# Altium integrated library WE-LHMI (rev22a).IntLib: 164 symbols (part 3 of 4)
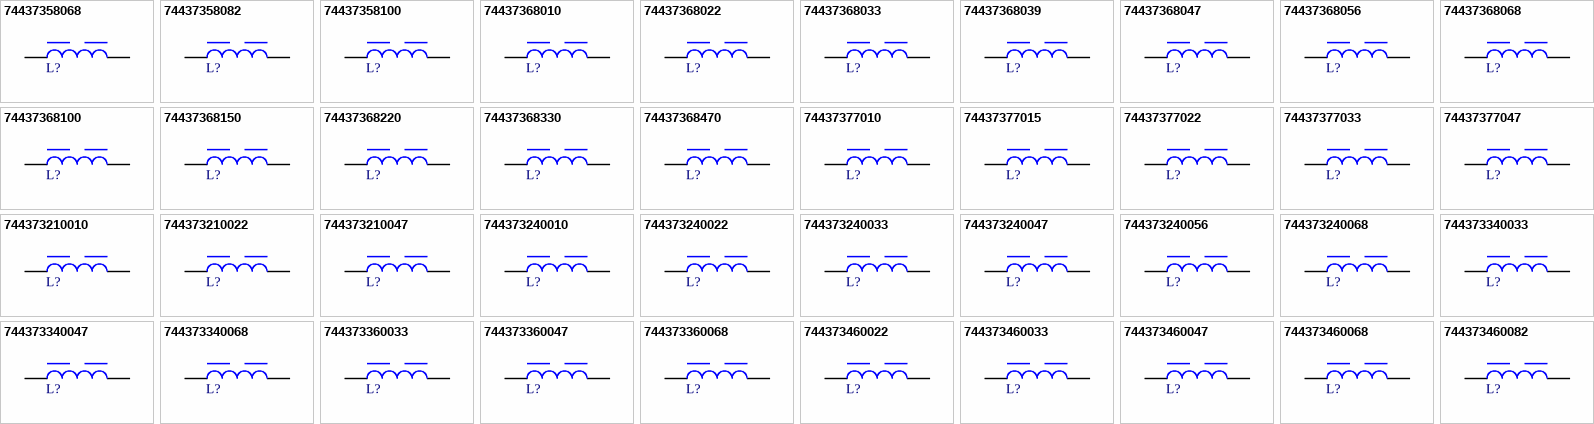
[diagram p6: symbols 74437358068 to 744373460082]

## 744373340033
designator L?, comment 0.33µH, 12.4A  (value not drawn)
WE-LHMI SMT Power Inductor, size 5020, 0.33µH, 12.4A, 7.3mΩ; Manufacturer Part Number: 744373340033; Manufacturer: Wurth Elektronik; Case/Size Code: 5020; DC Resistance: 6.3mΩ; Saturation Current @10%: 14.7A; Saturation Current @30%: 29.3A; Self Resonant Frequency: 100MHz; ComponentLink1Description: Website Link; ComponentLink1URL: https://www.we-online.com/redexpert/article/744373340033?ad; ComponentLink2Description: Datasheet Link; ComponentLink2URL: https://www.we-online.com/redexpert/spec/744373340033?ad; Category: Shielded Power Inductors; Match Code: WE-LHMI; Mount: Surface Mount; Operating Temperature Max: 125°C; Operating Temperature Min: -40°C; Packaging: Tape and Reel; Length: 5.2mm; Width: 5.2mm; Height: 1.8mm; DC Resistance Max: 7.3mΩ; Inductance: 0.33µH; Performance Rated Current: 12.4A
footprint WE-LHMI_5020
pins: 1, 2

## 744373340047
designator L?, comment 0.47µH, 11.5A  (value not drawn)
WE-LHMI SMT Power Inductor, size 5020, 0.47µH, 11.5A, 8.6mΩ; Manufacturer Part Number: 744373340047; Manufacturer: Wurth Elektronik; Case/Size Code: 5020; DC Resistance: 7.3mΩ; Saturation Current @10%: 9.6A; Saturation Current @30%: 19.8A; Self Resonant Frequency: 95MHz; ComponentLink1Description: Website Link; ComponentLink1URL: https://www.we-online.com/redexpert/article/744373340047?ad; ComponentLink2Description: Datasheet Link; ComponentLink2URL: https://www.we-online.com/redexpert/spec/744373340047?ad; Category: Shielded Power Inductors; Match Code: WE-LHMI; Mount: Surface Mount; Operating Temperature Max: 125°C; Operating Temperature Min: -40°C; Packaging: Tape and Reel; Length: 5.2mm; Width: 5.2mm; Height: 1.8mm; DC Resistance Max: 8.6mΩ; Inductance: 0.47µH; Performance Rated Current: 11.5A
footprint WE-LHMI_5020
pins: 1, 2

## 744373340068
designator L?, comment 0.68µH, 9.4A  (value not drawn)
WE-LHMI SMT Power Inductor, size 5020, 0.68µH, 9.4A, 12.4mΩ; Manufacturer Part Number: 744373340068; Manufacturer: Wurth Elektronik; Case/Size Code: 5020; DC Resistance: 11mΩ; Saturation Current @10%: 9.8A; Saturation Current @30%: 17.8A; Self Resonant Frequency: 90MHz; ComponentLink1Description: Website Link; ComponentLink1URL: https://www.we-online.com/redexpert/article/744373340068?ad; ComponentLink2Description: Datasheet Link; ComponentLink2URL: https://www.we-online.com/redexpert/spec/744373340068?ad; Category: Shielded Power Inductors; Match Code: WE-LHMI; Mount: Surface Mount; Operating Temperature Max: 125°C; Operating Temperature Min: -40°C; Packaging: Tape and Reel; Length: 5.2mm; Width: 5.2mm; Height: 1.8mm; DC Resistance Max: 12.4mΩ; Inductance: 0.68µH; Performance Rated Current: 9.4A
footprint WE-LHMI_5020
pins: 1, 2

## 744373360033
designator L?, comment 0.33µH, 15.1A  (value not drawn)
WE-LHMI SMT Power Inductor, size 5030, 0.33µH, 15.1A, 5mΩ; Manufacturer Part Number: 744373360033; Manufacturer: Wurth Elektronik; Case/Size Code: 5030; DC Resistance: 4.3mΩ; Saturation Current @10%: 15A; Saturation Current @30%: 29.3A; Self Resonant Frequency: 120MHz; ComponentLink1Description: Website Link; ComponentLink1URL: https://www.we-online.com/redexpert/article/744373360033?ad; ComponentLink2Description: Datasheet Link; ComponentLink2URL: https://www.we-online.com/redexpert/spec/744373360033?ad; Category: Shielded Power Inductors; Match Code: WE-LHMI; Mount: Surface Mount; Operating Temperature Max: 125°C; Operating Temperature Min: -40°C; Packaging: Tape and Reel; Length: 5.2mm; Width: 5.2mm; Height: 2.8mm; DC Resistance Max: 5mΩ; Inductance: 0.33µH; Performance Rated Current: 15.1A
footprint WE-LHMI_5030
pins: 1, 2

## 744373360047
designator L?, comment 0.47µH, 12.3A  (value not drawn)
WE-LHMI SMT Power Inductor, size 5030, 0.47µH, 12.3A, 7.4mΩ; Manufacturer Part Number: 744373360047; Manufacturer: Wurth Elektronik; Case/Size Code: 5030; DC Resistance: 6.4mΩ; Saturation Current @10%: 10.8A; Saturation Current @30%: 21.5A; Self Resonant Frequency: 100MHz; ComponentLink1Description: Website Link; ComponentLink1URL: https://www.we-online.com/redexpert/article/744373360047?ad; ComponentLink2Description: Datasheet Link; ComponentLink2URL: https://www.we-online.com/redexpert/spec/744373360047?ad; Category: Shielded Power Inductors; Match Code: WE-LHMI; Mount: Surface Mount; Operating Temperature Max: 125°C; Operating Temperature Min: -40°C; Packaging: Tape and Reel; Length: 5.2mm; Width: 5.2mm; Height: 2.8mm; DC Resistance Max: 7.4mΩ; Inductance: 0.47µH; Performance Rated Current: 12.3A
footprint WE-LHMI_5030
pins: 1, 2

## 744373360068
designator L?, comment 0.68µH, 9.8A  (value not drawn)
WE-LHMI SMT Power Inductor, size 5030, 0.68µH, 9.8A, 12mΩ; Manufacturer Part Number: 744373360068; Manufacturer: Wurth Elektronik; Case/Size Code: 5030; DC Resistance: 10mΩ; Saturation Current @10%: 10.2A; Saturation Current @30%: 19.3A; Self Resonant Frequency: 90MHz; ComponentLink1Description: Website Link; ComponentLink1URL: https://www.we-online.com/redexpert/article/744373360068?ad; ComponentLink2Description: Datasheet Link; ComponentLink2URL: https://www.we-online.com/redexpert/spec/744373360068?ad; Category: Shielded Power Inductors; Match Code: WE-LHMI; Mount: Surface Mount; Operating Temperature Max: 125°C; Operating Temperature Min: -40°C; Packaging: Tape and Reel; Length: 5.2mm; Width: 5.2mm; Height: 2.8mm; DC Resistance Max: 12mΩ; Inductance: 0.68µH; Performance Rated Current: 9.8A
footprint WE-LHMI_5030
pins: 1, 2

## 744373460022
designator L?, comment 0.22µH, 23A  (value not drawn)
WE-LHMI SMT Power Inductor, size 7030, 0.22µH, 23A, 2.8mΩ; Manufacturer Part Number: 744373460022; Manufacturer: Wurth Elektronik; Case/Size Code: 7030; DC Resistance: 2.1mΩ; Saturation Current @10%: 29.9A; Saturation Current @30%: 54.3A; Self Resonant Frequency: 149MHz; ComponentLink1Description: Website Link; ComponentLink1URL: https://www.we-online.com/redexpert/article/744373460022?ad; ComponentLink2Description: Datasheet Link; ComponentLink2URL: https://www.we-online.com/redexpert/spec/744373460022?ad; Category: Shielded Power Inductors; Match Code: WE-LHMI; Mount: Surface Mount; Operating Temperature Max: 125°C; Operating Temperature Min: -40°C; Packaging: Tape and Reel; Length: 6.6mm; Width: 6.6mm; Height: 2.8mm; DC Resistance Max: 2.8mΩ; Inductance: 0.22µH; Performance Rated Current: 23A
footprint WE-LHMI_7030
pins: 1, 2

## 744373460033
designator L?, comment 0.33µH, 17.8A  (value not drawn)
WE-LHMI SMT Power Inductor, size 7030, 0.33µH, 17.8A, 3.9mΩ; Manufacturer Part Number: 744373460033; Manufacturer: Wurth Elektronik; Case/Size Code: 7030; DC Resistance: 3.5mΩ; Saturation Current @10%: 27.1A; Saturation Current @30%: 47A; Self Resonant Frequency: 124MHz; ComponentLink1Description: Website Link; ComponentLink1URL: https://www.we-online.com/redexpert/article/744373460033?ad; ComponentLink2Description: Datasheet Link; ComponentLink2URL: https://www.we-online.com/redexpert/spec/744373460033?ad; Category: Shielded Power Inductors; Match Code: WE-LHMI; Mount: Surface Mount; Operating Temperature Max: 125°C; Operating Temperature Min: -40°C; Packaging: Tape and Reel; Length: 6.6mm; Width: 6.6mm; Height: 2.8mm; DC Resistance Max: 3.9mΩ; Inductance: 0.33µH; Performance Rated Current: 17.8A
footprint WE-LHMI_7030
pins: 1, 2

## 744373460047
designator L?, comment 0.47µH, 16.6A  (value not drawn)
WE-LHMI SMT Power Inductor, size 7030, 0.47µH, 16.6A, 4.2mΩ; Manufacturer Part Number: 744373460047; Manufacturer: Wurth Elektronik; Case/Size Code: 7030; DC Resistance: 4mΩ; Saturation Current @10%: 21.4A; Saturation Current @30%: 37.8A; Self Resonant Frequency: 91MHz; ComponentLink1Description: Website Link; ComponentLink1URL: https://www.we-online.com/redexpert/article/744373460047?ad; ComponentLink2Description: Datasheet Link; ComponentLink2URL: https://www.we-online.com/redexpert/spec/744373460047?ad; Category: Shielded Power Inductors; Match Code: WE-LHMI; Mount: Surface Mount; Operating Temperature Max: 125°C; Operating Temperature Min: -40°C; Packaging: Tape and Reel; Length: 6.6mm; Width: 6.6mm; Height: 2.8mm; DC Resistance Max: 4.2mΩ; Inductance: 0.47µH; Performance Rated Current: 16.6A
footprint WE-LHMI_7030
pins: 1, 2

## 744373460068
designator L?, comment 0.68µH, 15.1A  (value not drawn)
WE-LHMI SMT Power Inductor, size 7030, 0.68µH, 15.1A, 5.5mΩ; Manufacturer Part Number: 744373460068; Manufacturer: Wurth Elektronik; Case/Size Code: 7030; DC Resistance: 4.8mΩ; Saturation Current @10%: 15.9A; Saturation Current @30%: 31.6A; Self Resonant Frequency: 72MHz; ComponentLink1Description: Website Link; ComponentLink1URL: https://www.we-online.com/redexpert/article/744373460068?ad; ComponentLink2Description: Datasheet Link; ComponentLink2URL: https://www.we-online.com/redexpert/spec/744373460068?ad; Category: Shielded Power Inductors; Match Code: WE-LHMI; Mount: Surface Mount; Operating Temperature Max: 125°C; Operating Temperature Min: -40°C; Packaging: Tape and Reel; Length: 6.6mm; Width: 6.6mm; Height: 2.8mm; DC Resistance Max: 5.5mΩ; Inductance: 0.68µH; Performance Rated Current: 15.1A
footprint WE-LHMI_7030
pins: 1, 2

## 744373460082
designator L?, comment 0.82µH, 12.7A  (value not drawn)
WE-LHMI SMT Power Inductor, size 7030, 0.82µH, 12.7A, 8mΩ; Manufacturer Part Number: 744373460082; Manufacturer: Wurth Elektronik; Case/Size Code: 7030; DC Resistance: 6.7mΩ; Saturation Current @10%: 15A; Saturation Current @30%: 31.9A; Self Resonant Frequency: 60MHz; ComponentLink1Description: Website Link; ComponentLink1URL: https://www.we-online.com/redexpert/article/744373460082?ad; ComponentLink2Description: Datasheet Link; ComponentLink2URL: https://www.we-online.com/redexpert/spec/744373460082?ad; Category: Shielded Power Inductors; Match Code: WE-LHMI; Mount: Surface Mount; Operating Temperature Max: 125°C; Operating Temperature Min: -40°C; Packaging: Tape and Reel; Length: 6.6mm; Width: 6.6mm; Height: 2.8mm; DC Resistance Max: 8mΩ; Inductance: 0.82µH; Performance Rated Current: 12.7A
footprint WE-LHMI_7030
pins: 1, 2

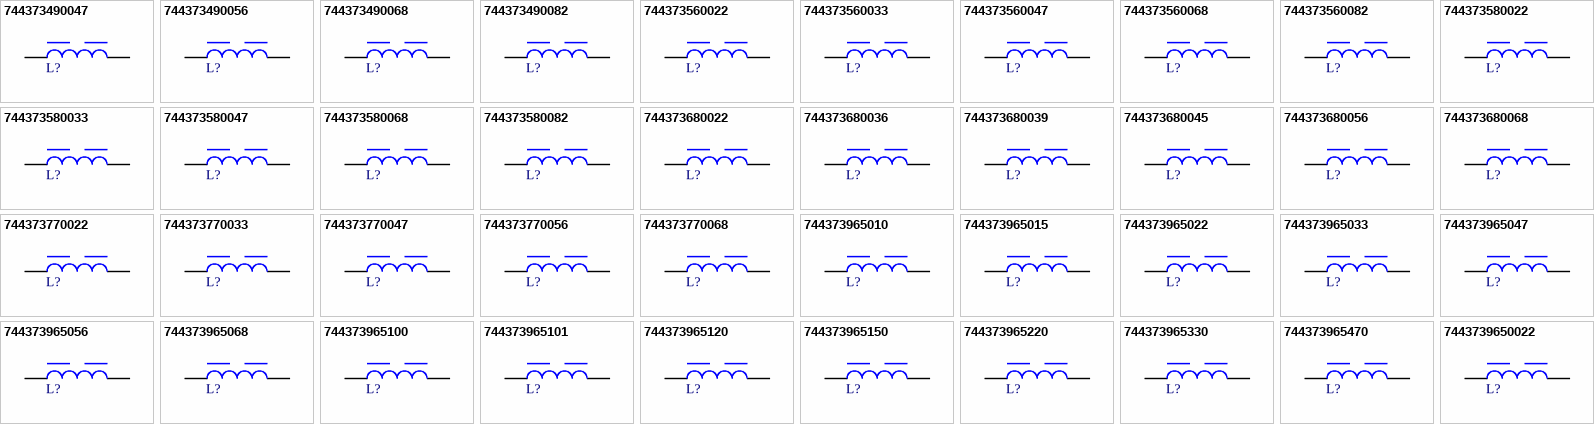
[diagram p3: symbols 744373490047 to 7443739650022]

## 744373490047
designator L?, comment 0.47µH, 17.8A  (value not drawn)
WE-LHMI SMT Power Inductor, size 7050, 0.47µH, 17.8A, 3.9mΩ; Manufacturer Part Number: 744373490047; Manufacturer: Wurth Elektronik; Case/Size Code: 7050; DC Resistance: 3.5mΩ; Saturation Current @10%: 20A; Saturation Current @30%: 41.6A; Self Resonant Frequency: 96MHz; ComponentLink1Description: Website Link; ComponentLink1URL: https://www.we-online.com/redexpert/article/744373490047?ad; ComponentLink2Description: Datasheet Link; ComponentLink2URL: https://www.we-online.com/redexpert/spec/744373490047?ad; Category: Shielded Power Inductors; Match Code: WE-LHMI; Mount: Surface Mount; Operating Temperature Max: 125°C; Operating Temperature Min: -40°C; Packaging: Tape and Reel; Length: 6.6mm; Width: 6.6mm; Height: 4.8mm; DC Resistance Max: 3.9mΩ; Inductance: 0.47µH; Performance Rated Current: 17.8A
footprint WE-LHMI_7050
pins: 1, 2

## 744373490056
designator L?, comment 0.56µH, 17.6A  (value not drawn)
WE-LHMI SMT Power Inductor, size 7050, 0.56µH, 17.6A, 4.2mΩ; Manufacturer Part Number: 744373490056; Manufacturer: Wurth Elektronik; Case/Size Code: 7050; DC Resistance: 3.6mΩ; Saturation Current @10%: 19.9A; Saturation Current @30%: 36.4A; Self Resonant Frequency: 85MHz; ComponentLink1Description: Website Link; ComponentLink1URL: https://www.we-online.com/redexpert/article/744373490056?ad; ComponentLink2Description: Datasheet Link; ComponentLink2URL: https://www.we-online.com/redexpert/spec/744373490056?ad; Category: Shielded Power Inductors; Match Code: WE-LHMI; Mount: Surface Mount; Operating Temperature Max: 125°C; Operating Temperature Min: -40°C; Packaging: Tape and Reel; Length: 6.6mm; Width: 6.6mm; Height: 4.8mm; DC Resistance Max: 4.2mΩ; Inductance: 0.56µH; Performance Rated Current: 17.6A
footprint WE-LHMI_7050
pins: 1, 2

## 744373490068
designator L?, comment 0.68µH, 16.7A  (value not drawn)
WE-LHMI SMT Power Inductor, size 7050, 0.68µH, 16.7A, 4.5mΩ; Manufacturer Part Number: 744373490068; Manufacturer: Wurth Elektronik; Case/Size Code: 7050; DC Resistance: 4mΩ; Saturation Current @10%: 18.8A; Saturation Current @30%: 33.8A; Self Resonant Frequency: 73MHz; ComponentLink1Description: Website Link; ComponentLink1URL: https://www.we-online.com/redexpert/article/744373490068?ad; ComponentLink2Description: Datasheet Link; ComponentLink2URL: https://www.we-online.com/redexpert/spec/744373490068?ad; Category: Shielded Power Inductors; Match Code: WE-LHMI; Mount: Surface Mount; Operating Temperature Max: 125°C; Operating Temperature Min: -40°C; Packaging: Tape and Reel; Length: 6.6mm; Width: 6.6mm; Height: 4.8mm; DC Resistance Max: 4.5mΩ; Inductance: 0.68µH; Performance Rated Current: 16.7A
footprint WE-LHMI_7050
pins: 1, 2

## 744373490082
designator L?, comment 0.82µH, 15.5A  (value not drawn)
WE-LHMI SMT Power Inductor, size 7050, 0.82µH, 15.5A, 4.9mΩ; Manufacturer Part Number: 744373490082; Manufacturer: Wurth Elektronik; Case/Size Code: 7050; DC Resistance: 4.6mΩ; Saturation Current @10%: 17.4A; Saturation Current @30%: 31.6A; Self Resonant Frequency: 70MHz; ComponentLink1Description: Website Link; ComponentLink1URL: https://www.we-online.com/redexpert/article/744373490082?ad; ComponentLink2Description: Datasheet Link; ComponentLink2URL: https://www.we-online.com/redexpert/spec/744373490082?ad; Category: Shielded Power Inductors; Match Code: WE-LHMI; Mount: Surface Mount; Operating Temperature Max: 125°C; Operating Temperature Min: -40°C; Packaging: Tape and Reel; Length: 6.6mm; Width: 6.6mm; Height: 4.8mm; DC Resistance Max: 4.9mΩ; Inductance: 0.82µH; Performance Rated Current: 15.5A
footprint WE-LHMI_7050
pins: 1, 2

## 744373560022
designator L?, comment 0.22µH, 29.5A  (value not drawn)
WE-LHMI SMT Power Inductor, size 8030, 0.22µH, 29.5A, 1.61mΩ; Manufacturer Part Number: 744373560022; Manufacturer: Wurth Elektronik; Case/Size Code: 8030; DC Resistance: 1.47mΩ; Saturation Current @10%: 32.1A; Saturation Current @30%: 63.4A; Self Resonant Frequency: 110MHz; ComponentLink1Description: Website Link; ComponentLink1URL: https://www.we-online.com/redexpert/article/744373560022?ad; ComponentLink2Description: Datasheet Link; ComponentLink2URL: https://www.we-online.com/redexpert/spec/744373560022?ad; Category: Shielded Power Inductors; Match Code: WE-LHMI; Mount: Surface Mount; Operating Temperature Max: 125°C; Operating Temperature Min: -40°C; Packaging: Tape and Reel; Length: 9.2mm; Width: 8.5mm; Height: 3mm; DC Resistance Max: 1.61mΩ; Inductance: 0.22µH; Performance Rated Current: 29.5A
footprint WE-LHMI_8030
pins: 1, 2

## 744373560033
designator L?, comment 0.33µH, 24.8A  (value not drawn)
WE-LHMI SMT Power Inductor, size 8030, 0.33µH, 24.8A, 2.57mΩ; Manufacturer Part Number: 744373560033; Manufacturer: Wurth Elektronik; Case/Size Code: 8030; DC Resistance: 2.06mΩ; Saturation Current @10%: 26.2A; Saturation Current @30%: 51.9A; Self Resonant Frequency: 95MHz; ComponentLink1Description: Website Link; ComponentLink1URL: https://www.we-online.com/redexpert/article/744373560033?ad; ComponentLink2Description: Datasheet Link; ComponentLink2URL: https://www.we-online.com/redexpert/spec/744373560033?ad; Category: Shielded Power Inductors; Match Code: WE-LHMI; Mount: Surface Mount; Operating Temperature Max: 125°C; Operating Temperature Min: -40°C; Packaging: Tape and Reel; Length: 9.2mm; Width: 8.5mm; Height: 3mm; DC Resistance Max: 2.57mΩ; Inductance: 0.33µH; Performance Rated Current: 24.8A
footprint WE-LHMI_8030
pins: 1, 2

## 744373560047
designator L?, comment 0.47µH, 23.2A  (value not drawn)
WE-LHMI SMT Power Inductor, size 8030, 0.47µH, 23.2A, 3.33mΩ; Manufacturer Part Number: 744373560047; Manufacturer: Wurth Elektronik; Case/Size Code: 8030; DC Resistance: 2.35mΩ; Saturation Current @10%: 22A; Saturation Current @30%: 44.7A; Self Resonant Frequency: 72MHz; ComponentLink1Description: Website Link; ComponentLink1URL: https://www.we-online.com/redexpert/article/744373560047?ad; ComponentLink2Description: Datasheet Link; ComponentLink2URL: https://www.we-online.com/redexpert/spec/744373560047?ad; Category: Shielded Power Inductors; Match Code: WE-LHMI; Mount: Surface Mount; Operating Temperature Max: 125°C; Operating Temperature Min: -40°C; Packaging: Tape and Reel; Length: 9.2mm; Width: 8.5mm; Height: 3mm; DC Resistance Max: 3.33mΩ; Inductance: 0.47µH; Performance Rated Current: 23.2A
footprint WE-LHMI_8030
pins: 1, 2

## 744373560068
designator L?, comment 0.68µH, 18.5A  (value not drawn)
WE-LHMI SMT Power Inductor, size 8030, 0.68µH, 18.5A, 3.99mΩ; Manufacturer Part Number: 744373560068; Manufacturer: Wurth Elektronik; Case/Size Code: 8030; DC Resistance: 3.65mΩ; Saturation Current @10%: 21A; Saturation Current @30%: 43A; Self Resonant Frequency: 53MHz; ComponentLink1Description: Website Link; ComponentLink1URL: https://www.we-online.com/redexpert/article/744373560068?ad; ComponentLink2Description: Datasheet Link; ComponentLink2URL: https://www.we-online.com/redexpert/spec/744373560068?ad; Category: Shielded Power Inductors; Match Code: WE-LHMI; Mount: Surface Mount; Operating Temperature Max: 125°C; Operating Temperature Min: -40°C; Packaging: Tape and Reel; Length: 9.2mm; Width: 8.5mm; Height: 3mm; DC Resistance Max: 3.99mΩ; Inductance: 0.68µH; Performance Rated Current: 18.5A
footprint WE-LHMI_8030
pins: 1, 2

## 744373560082
designator L?, comment 0.82µH, 17.3A  (value not drawn)
WE-LHMI SMT Power Inductor, size 8030, 0.82µH, 17.3A, 4.87mΩ; Manufacturer Part Number: 744373560082; Manufacturer: Wurth Elektronik; Case/Size Code: 8030; DC Resistance: 4.2mΩ; Saturation Current @10%: 19.3A; Saturation Current @30%: 40.9A; Self Resonant Frequency: 51MHz; ComponentLink1Description: Website Link; ComponentLink1URL: https://www.we-online.com/redexpert/article/744373560082?ad; ComponentLink2Description: Datasheet Link; ComponentLink2URL: https://www.we-online.com/redexpert/spec/744373560082?ad; Category: Shielded Power Inductors; Match Code: WE-LHMI; Mount: Surface Mount; Operating Temperature Max: 125°C; Operating Temperature Min: -40°C; Packaging: Tape and Reel; Length: 9.2mm; Width: 8.5mm; Height: 3mm; DC Resistance Max: 4.87mΩ; Inductance: 0.82µH; Performance Rated Current: 17.3A
footprint WE-LHMI_8030
pins: 1, 2

## 744373580022
designator L?, comment 0.22µH, 38.5A  (value not drawn)
WE-LHMI SMT Power Inductor, size 8040, 0.22µH, 38.5A, 1.35mΩ; Manufacturer Part Number: 744373580022; Manufacturer: Wurth Elektronik; Case/Size Code: 8040; DC Resistance: 0.87mΩ; Saturation Current @10%: 38.3A; Saturation Current @30%: 80.4A; Self Resonant Frequency: 145MHz; ComponentLink1Description: Website Link; ComponentLink1URL: https://www.we-online.com/redexpert/article/744373580022?ad; ComponentLink2Description: Datasheet Link; ComponentLink2URL: https://www.we-online.com/redexpert/spec/744373580022?ad; Category: Shielded Power Inductors; Match Code: WE-LHMI; Mount: Surface Mount; Operating Temperature Max: 125°C; Operating Temperature Min: -40°C; Packaging: Tape and Reel; Length: 9.2mm; Width: 8.5mm; Height: 4mm; DC Resistance Max: 1.35mΩ; Inductance: 0.22µH; Performance Rated Current: 38.5A
footprint WE-LHMI_8040
pins: 1, 2

## 744373580033
designator L?, comment 0.33µH, 29.7A  (value not drawn)
WE-LHMI SMT Power Inductor, size 8040, 0.33µH, 29.7A, 2.15mΩ; Manufacturer Part Number: 744373580033; Manufacturer: Wurth Elektronik; Case/Size Code: 8040; DC Resistance: 1.45mΩ; Saturation Current @10%: 31.4A; Saturation Current @30%: 67.2A; Self Resonant Frequency: 96MHz; ComponentLink1Description: Website Link; ComponentLink1URL: https://www.we-online.com/redexpert/article/744373580033?ad; ComponentLink2Description: Datasheet Link; ComponentLink2URL: https://www.we-online.com/redexpert/spec/744373580033?ad; Category: Shielded Power Inductors; Match Code: WE-LHMI; Mount: Surface Mount; Operating Temperature Max: 125°C; Operating Temperature Min: -40°C; Packaging: Tape and Reel; Length: 9.2mm; Width: 8.5mm; Height: 4mm; DC Resistance Max: 2.15mΩ; Inductance: 0.33µH; Performance Rated Current: 29.7A
footprint WE-LHMI_8040
pins: 1, 2

## 744373580047
designator L?, comment 0.47µH, 27.6A  (value not drawn)
WE-LHMI SMT Power Inductor, size 8040, 0.47µH, 27.6A, 2.38mΩ; Manufacturer Part Number: 744373580047; Manufacturer: Wurth Elektronik; Case/Size Code: 8040; DC Resistance: 1.68mΩ; Saturation Current @10%: 27.1A; Saturation Current @30%: 56.8A; Self Resonant Frequency: 82MHz; ComponentLink1Description: Website Link; ComponentLink1URL: https://www.we-online.com/redexpert/article/744373580047?ad; ComponentLink2Description: Datasheet Link; ComponentLink2URL: https://www.we-online.com/redexpert/spec/744373580047?ad; Category: Shielded Power Inductors; Match Code: WE-LHMI; Mount: Surface Mount; Operating Temperature Max: 125°C; Operating Temperature Min: -40°C; Packaging: Tape and Reel; Length: 9.2mm; Width: 8.5mm; Height: 4mm; DC Resistance Max: 2.38mΩ; Inductance: 0.47µH; Performance Rated Current: 27.6A
footprint WE-LHMI_8040
pins: 1, 2

## 744373580068
designator L?, comment 0.68µH, 21.5A  (value not drawn)
WE-LHMI SMT Power Inductor, size 8040, 0.68µH, 21.5A, 3.22mΩ; Manufacturer Part Number: 744373580068; Manufacturer: Wurth Elektronik; Case/Size Code: 8040; DC Resistance: 2.75mΩ; Saturation Current @10%: 17.5A; Saturation Current @30%: 37.8A; Self Resonant Frequency: 45MHz; ComponentLink1Description: Website Link; ComponentLink1URL: https://www.we-online.com/redexpert/article/744373580068?ad; ComponentLink2Description: Datasheet Link; ComponentLink2URL: https://www.we-online.com/redexpert/spec/744373580068?ad; Category: Shielded Power Inductors; Match Code: WE-LHMI; Mount: Surface Mount; Operating Temperature Max: 125°C; Operating Temperature Min: -40°C; Packaging: Tape and Reel; Length: 9.2mm; Width: 8.5mm; Height: 4mm; DC Resistance Max: 3.22mΩ; Inductance: 0.68µH; Performance Rated Current: 21.5A
footprint WE-LHMI_8040
pins: 1, 2

## 744373580082
designator L?, comment 0.82µH, 20.7A  (value not drawn)
WE-LHMI SMT Power Inductor, size 8040, 0.82µH, 20.7A, 3.88mΩ; Manufacturer Part Number: 744373580082; Manufacturer: Wurth Elektronik; Case/Size Code: 8040; DC Resistance: 2.95mΩ; Saturation Current @10%: 19.7A; Saturation Current @30%: 41.6A; Self Resonant Frequency: 51MHz; ComponentLink1Description: Website Link; ComponentLink1URL: https://www.we-online.com/redexpert/article/744373580082?ad; ComponentLink2Description: Datasheet Link; ComponentLink2URL: https://www.we-online.com/redexpert/spec/744373580082?ad; Category: Shielded Power Inductors; Match Code: WE-LHMI; Mount: Surface Mount; Operating Temperature Max: 125°C; Operating Temperature Min: -40°C; Packaging: Tape and Reel; Length: 9.2mm; Width: 8.5mm; Height: 4mm; DC Resistance Max: 3.88mΩ; Inductance: 0.82µH; Performance Rated Current: 20.7A
footprint WE-LHMI_8040
pins: 1, 2

## 744373680022
designator L?, comment 0.22µH, 41.4A  (value not drawn)
WE-LHMI SMT Power Inductor, size 1040, 0.22µH, 41.4A, 1mΩ; Manufacturer Part Number: 744373680022; Manufacturer: Wurth Elektronik; Case/Size Code: 1040; DC Resistance: 0.8mΩ; Saturation Current @10%: 46A; Saturation Current @30%: 94.2A; Self Resonant Frequency: 153MHz; ComponentLink1Description: Website Link; ComponentLink1URL: https://www.we-online.com/redexpert/article/744373680022?ad; ComponentLink2Description: Datasheet Link; ComponentLink2URL: https://www.we-online.com/redexpert/spec/744373680022?ad; Category: Shielded Power Inductors; Match Code: WE-LHMI; Mount: Surface Mount; Operating Temperature Max: 125°C; Operating Temperature Min: -40°C; Packaging: Tape and Reel; Length: 10mm; Width: 10mm; Height: 3.8mm; DC Resistance Max: 1mΩ; Inductance: 0.22µH; Performance Rated Current: 41.4A
footprint WE-LHMI_1040
pins: 1, 2

## 744373680036
designator L?, comment 0.36µH, 36.2A  (value not drawn)
WE-LHMI SMT Power Inductor, size 1040, 0.36µH, 36.2A, 1.2mΩ; Manufacturer Part Number: 744373680036; Manufacturer: Wurth Elektronik; Case/Size Code: 1040; DC Resistance: 1.05mΩ; Saturation Current @10%: 44.5A; Saturation Current @30%: 79.4A; Self Resonant Frequency: 104MHz; ComponentLink1Description: Website Link; ComponentLink1URL: https://www.we-online.com/redexpert/article/744373680036?ad; ComponentLink2Description: Datasheet Link; ComponentLink2URL: https://www.we-online.com/redexpert/spec/744373680036?ad; Category: Shielded Power Inductors; Match Code: WE-LHMI; Mount: Surface Mount; Operating Temperature Max: 125°C; Operating Temperature Min: -40°C; Packaging: Tape and Reel; Length: 10mm; Width: 10mm; Height: 3.8mm; DC Resistance Max: 1.2mΩ; Inductance: 0.36µH; Performance Rated Current: 36.2A
footprint WE-LHMI_1040
pins: 1, 2

## 744373680039
designator L?, comment 0.39µH, 35.3A  (value not drawn)
WE-LHMI SMT Power Inductor, size 1040, 0.39µH, 35.3A, 1.3mΩ; Manufacturer Part Number: 744373680039; Manufacturer: Wurth Elektronik; Case/Size Code: 1040; DC Resistance: 1.1mΩ; Saturation Current @10%: 43A; Saturation Current @30%: 77.5A; Self Resonant Frequency: 101MHz; ComponentLink1Description: Website Link; ComponentLink1URL: https://www.we-online.com/redexpert/article/744373680039?ad; ComponentLink2Description: Datasheet Link; ComponentLink2URL: https://www.we-online.com/redexpert/spec/744373680039?ad; Category: Shielded Power Inductors; Match Code: WE-LHMI; Mount: Surface Mount; Operating Temperature Max: 125°C; Operating Temperature Min: -40°C; Packaging: Tape and Reel; Length: 10mm; Width: 10mm; Height: 3.8mm; DC Resistance Max: 1.3mΩ; Inductance: 0.39µH; Performance Rated Current: 35.3A
footprint WE-LHMI_1040
pins: 1, 2

## 744373680045
designator L?, comment 0.45µH, 32.6A  (value not drawn)
WE-LHMI SMT Power Inductor, size 1040, 0.45µH, 32.6A, 1.5mΩ; Manufacturer Part Number: 744373680045; Manufacturer: Wurth Elektronik; Case/Size Code: 1040; DC Resistance: 1.3mΩ; Saturation Current @10%: 34.9A; Saturation Current @30%: 64.5A; Self Resonant Frequency: 82MHz; ComponentLink1Description: Website Link; ComponentLink1URL: https://www.we-online.com/redexpert/article/744373680045?ad; ComponentLink2Description: Datasheet Link; ComponentLink2URL: https://www.we-online.com/redexpert/spec/744373680045?ad; Category: Shielded Power Inductors; Match Code: WE-LHMI; Mount: Surface Mount; Operating Temperature Max: 125°C; Operating Temperature Min: -40°C; Packaging: Tape and Reel; Length: 10mm; Width: 10mm; Height: 3.8mm; DC Resistance Max: 1.5mΩ; Inductance: 0.45µH; Performance Rated Current: 32.6A
footprint WE-LHMI_1040
pins: 1, 2

## 744373680056
designator L?, comment 0.56µH, 29.3A  (value not drawn)
WE-LHMI SMT Power Inductor, size 1040, 0.56µH, 29.3A, 1.8mΩ; Manufacturer Part Number: 744373680056; Manufacturer: Wurth Elektronik; Case/Size Code: 1040; DC Resistance: 1.6mΩ; Saturation Current @10%: 31.7A; Saturation Current @30%: 60.9A; Self Resonant Frequency: 70MHz; ComponentLink1Description: Website Link; ComponentLink1URL: https://www.we-online.com/redexpert/article/744373680056?ad; ComponentLink2Description: Datasheet Link; ComponentLink2URL: https://www.we-online.com/redexpert/spec/744373680056?ad; Category: Shielded Power Inductors; Match Code: WE-LHMI; Mount: Surface Mount; Operating Temperature Max: 125°C; Operating Temperature Min: -40°C; Packaging: Tape and Reel; Length: 10mm; Width: 10mm; Height: 3.8mm; DC Resistance Max: 1.8mΩ; Inductance: 0.56µH; Performance Rated Current: 29.3A
footprint WE-LHMI_1040
pins: 1, 2

## 744373680068
designator L?, comment 0.68µH, 23.8A  (value not drawn)
WE-LHMI SMT Power Inductor, size 1040, 0.68µH, 23.8A, 2.7mΩ; Manufacturer Part Number: 744373680068; Manufacturer: Wurth Elektronik; Case/Size Code: 1040; DC Resistance: 2.4mΩ; Saturation Current @10%: 30.6A; Saturation Current @30%: 58.3A; Self Resonant Frequency: 53MHz; ComponentLink1Description: Website Link; ComponentLink1URL: https://www.we-online.com/redexpert/article/744373680068?ad; ComponentLink2Description: Datasheet Link; ComponentLink2URL: https://www.we-online.com/redexpert/spec/744373680068?ad; Category: Shielded Power Inductors; Match Code: WE-LHMI; Mount: Surface Mount; Operating Temperature Max: 125°C; Operating Temperature Min: -40°C; Packaging: Tape and Reel; Length: 10mm; Width: 10mm; Height: 3.8mm; DC Resistance Max: 2.7mΩ; Inductance: 0.68µH; Performance Rated Current: 23.8A
footprint WE-LHMI_1040
pins: 1, 2

## 744373770022
designator L?, comment 0.22µH, 45A  (value not drawn)
WE-LHMI SMT Power Inductor, size 1335, 0.22µH, 45A, 0.9mΩ; Manufacturer Part Number: 744373770022; Manufacturer: Wurth Elektronik; Case/Size Code: 1335; DC Resistance: 0.75mΩ; Saturation Current @10%: 23.9A; Saturation Current @30%: 57.4A; Self Resonant Frequency: 130MHz; ComponentLink1Description: Website Link; ComponentLink1URL: https://www.we-online.com/redexpert/article/744373770022?ad; ComponentLink2Description: Datasheet Link; ComponentLink2URL: https://www.we-online.com/redexpert/spec/744373770022?ad; Category: Shielded Power Inductors; Match Code: WE-LHMI; Mount: Surface Mount; Operating Temperature Max: 125°C; Operating Temperature Min: -40°C; Packaging: Tape and Reel; Length: 12.6mm; Width: 12.6mm; Height: 3.3mm; DC Resistance Max: 0.9mΩ; Inductance: 0.22µH; Performance Rated Current: 45A
footprint WE-LHMI_1335
pins: 1, 2

## 744373770033
designator L?, comment 0.33µH, 41.6A  (value not drawn)
WE-LHMI SMT Power Inductor, size 1335, 0.33µH, 41.6A, 1.05mΩ; Manufacturer Part Number: 744373770033; Manufacturer: Wurth Elektronik; Case/Size Code: 1335; DC Resistance: 0.88mΩ; Saturation Current @10%: 23.9A; Saturation Current @30%: 65.5A; Self Resonant Frequency: 84MHz; ComponentLink1Description: Website Link; ComponentLink1URL: https://www.we-online.com/redexpert/article/744373770033?ad; ComponentLink2Description: Datasheet Link; ComponentLink2URL: https://www.we-online.com/redexpert/spec/744373770033?ad; Category: Shielded Power Inductors; Match Code: WE-LHMI; Mount: Surface Mount; Operating Temperature Max: 125°C; Operating Temperature Min: -40°C; Packaging: Tape and Reel; Length: 12.6mm; Width: 12.6mm; Height: 3.3mm; DC Resistance Max: 1.05mΩ; Inductance: 0.33µH; Performance Rated Current: 41.6A
footprint WE-LHMI_1335
pins: 1, 2

## 744373770047
designator L?, comment 0.47µH, 33.8A  (value not drawn)
WE-LHMI SMT Power Inductor, size 1335, 0.47µH, 33.8A, 1.6mΩ; Manufacturer Part Number: 744373770047; Manufacturer: Wurth Elektronik; Case/Size Code: 1335; DC Resistance: 1.32mΩ; Saturation Current @10%: 17.2A; Saturation Current @30%: 40.2A; Self Resonant Frequency: 77MHz; ComponentLink1Description: Website Link; ComponentLink1URL: https://www.we-online.com/redexpert/article/744373770047?ad; ComponentLink2Description: Datasheet Link; ComponentLink2URL: https://www.we-online.com/redexpert/spec/744373770047?ad; Category: Shielded Power Inductors; Match Code: WE-LHMI; Mount: Surface Mount; Operating Temperature Max: 125°C; Operating Temperature Min: -40°C; Packaging: Tape and Reel; Length: 12.6mm; Width: 12.6mm; Height: 3.3mm; DC Resistance Max: 1.6mΩ; Inductance: 0.47µH; Performance Rated Current: 33.8A
footprint WE-LHMI_1335
pins: 1, 2

## 744373770056
designator L?, comment 0.56µH, 32.9A  (value not drawn)
WE-LHMI SMT Power Inductor, size 1335, 0.56µH, 32.9A, 1.7mΩ; Manufacturer Part Number: 744373770056; Manufacturer: Wurth Elektronik; Case/Size Code: 1335; DC Resistance: 1.4mΩ; Saturation Current @10%: 16.8A; Saturation Current @30%: 42.8A; Self Resonant Frequency: 59MHz; ComponentLink1Description: Website Link; ComponentLink1URL: https://www.we-online.com/redexpert/article/744373770056?ad; ComponentLink2Description: Datasheet Link; ComponentLink2URL: https://www.we-online.com/redexpert/spec/744373770056?ad; Category: Shielded Power Inductors; Match Code: WE-LHMI; Mount: Surface Mount; Operating Temperature Max: 125°C; Operating Temperature Min: -40°C; Packaging: Tape and Reel; Length: 12.6mm; Width: 12.6mm; Height: 3.3mm; DC Resistance Max: 1.7mΩ; Inductance: 0.56µH; Performance Rated Current: 32.9A
footprint WE-LHMI_1335
pins: 1, 2

## 744373770068
designator L?, comment 0.68µH, 28.8A  (value not drawn)
WE-LHMI SMT Power Inductor, size 1335, 0.68µH, 28.8A, 2.2mΩ; Manufacturer Part Number: 744373770068; Manufacturer: Wurth Elektronik; Case/Size Code: 1335; DC Resistance: 1.8mΩ; Saturation Current @10%: 15.7A; Saturation Current @30%: 42.5A; Self Resonant Frequency: 51MHz; ComponentLink1Description: Website Link; ComponentLink1URL: https://www.we-online.com/redexpert/article/744373770068?ad; ComponentLink2Description: Datasheet Link; ComponentLink2URL: https://www.we-online.com/redexpert/spec/744373770068?ad; Category: Shielded Power Inductors; Match Code: WE-LHMI; Mount: Surface Mount; Operating Temperature Max: 125°C; Operating Temperature Min: -40°C; Packaging: Tape and Reel; Length: 12.6mm; Width: 12.6mm; Height: 3.3mm; DC Resistance Max: 2.2mΩ; Inductance: 0.68µH; Performance Rated Current: 28.8A
footprint WE-LHMI_1335
pins: 1, 2

## 744373965010
designator L?, comment 1µH, 28.2A  (value not drawn)
WE-LHMI SMT Power Inductor, size 1365, 1µH, 28.2A, 2.3mΩ; Manufacturer Part Number: 744373965010; Manufacturer: Wurth Elektronik; Case/Size Code: 1365; DC Resistance: 1.9mΩ; Saturation Current @10%: 32.7A; Saturation Current @30%: 59.9A; Self Resonant Frequency: 43.5MHz; ComponentLink1Description: Website Link; ComponentLink1URL: https://www.we-online.com/redexpert/article/744373965010?ad; ComponentLink2Description: Datasheet Link; ComponentLink2URL: https://www.we-online.com/redexpert/spec/744373965010?ad; Category: Shielded Power Inductors; Match Code: WE-LHMI; Mount: Surface Mount; Operating Temperature Max: 125°C; Operating Temperature Min: -40°C; Packaging: Tape and Reel; Length: 12.5mm; Width: 12.5mm; Height: 6.2mm; DC Resistance Max: 2.3mΩ; Inductance: 1µH; Performance Rated Current: 28.2A
footprint WE-LHMI_1365
pins: 1, 2

## 744373965015
designator L?, comment 1.5µH, 25.7A  (value not drawn)
WE-LHMI SMT Power Inductor, size 1365, 1.5µH, 25.7A, 3mΩ; Manufacturer Part Number: 744373965015; Manufacturer: Wurth Elektronik; Case/Size Code: 1365; DC Resistance: 2.3mΩ; Saturation Current @10%: 28.9A; Saturation Current @30%: 55.2A; Self Resonant Frequency: 29.5MHz; ComponentLink1Description: Website Link; ComponentLink1URL: https://www.we-online.com/redexpert/article/744373965015?ad; ComponentLink2Description: Datasheet Link; ComponentLink2URL: https://www.we-online.com/redexpert/spec/744373965015?ad; Category: Shielded Power Inductors; Match Code: WE-LHMI; Mount: Surface Mount; Operating Temperature Max: 125°C; Operating Temperature Min: -40°C; Packaging: Tape and Reel; Length: 12.5mm; Width: 12.5mm; Height: 6.2mm; DC Resistance Max: 3mΩ; Inductance: 1.5µH; Performance Rated Current: 25.7A
footprint WE-LHMI_1365
pins: 1, 2

## 744373965022
designator L?, comment 2.2µH, 21.6A  (value not drawn)
WE-LHMI SMT Power Inductor, size 1365, 2.2µH, 21.6A, 4.2mΩ; Manufacturer Part Number: 744373965022; Manufacturer: Wurth Elektronik; Case/Size Code: 1365; DC Resistance: 3.2mΩ; Saturation Current @10%: 20.7A; Saturation Current @30%: 41.1A; Self Resonant Frequency: 21.6MHz; ComponentLink1Description: Website Link; ComponentLink1URL: https://www.we-online.com/redexpert/article/744373965022?ad; ComponentLink2Description: Datasheet Link; ComponentLink2URL: https://www.we-online.com/redexpert/spec/744373965022?ad; Category: Shielded Power Inductors; Match Code: WE-LHMI; Mount: Surface Mount; Operating Temperature Max: 125°C; Operating Temperature Min: -40°C; Packaging: Tape and Reel; Length: 12.5mm; Width: 12.5mm; Height: 6.2mm; DC Resistance Max: 4.2mΩ; Inductance: 2.2µH; Performance Rated Current: 21.6A
footprint WE-LHMI_1365
pins: 1, 2

## 744373965033
designator L?, comment 3.3µH, 16.2A  (value not drawn)
WE-LHMI SMT Power Inductor, size 1365, 3.3µH, 16.2A, 6.8mΩ; Manufacturer Part Number: 744373965033; Manufacturer: Wurth Elektronik; Case/Size Code: 1365; DC Resistance: 5.7mΩ; Saturation Current @10%: 20.3A; Saturation Current @30%: 41.5A; Self Resonant Frequency: 20.3MHz; ComponentLink1Description: Website Link; ComponentLink1URL: https://www.we-online.com/redexpert/article/744373965033?ad; ComponentLink2Description: Datasheet Link; ComponentLink2URL: https://www.we-online.com/redexpert/spec/744373965033?ad; Category: Shielded Power Inductors; Match Code: WE-LHMI; Mount: Surface Mount; Operating Temperature Max: 125°C; Operating Temperature Min: -40°C; Packaging: Tape and Reel; Length: 12.5mm; Width: 12.5mm; Height: 6.2mm; DC Resistance Max: 6.8mΩ; Inductance: 3.3µH; Performance Rated Current: 16.2A
footprint WE-LHMI_1365
pins: 1, 2

## 744373965047
designator L?, comment 4.7µH, 15.1A  (value not drawn)
WE-LHMI SMT Power Inductor, size 1365, 4.7µH, 15.1A, 8.4mΩ; Manufacturer Part Number: 744373965047; Manufacturer: Wurth Elektronik; Case/Size Code: 1365; DC Resistance: 6.5mΩ; Saturation Current @10%: 18.4A; Saturation Current @30%: 35.8A; Self Resonant Frequency: 13.9MHz; ComponentLink1Description: Website Link; ComponentLink1URL: https://www.we-online.com/redexpert/article/744373965047?ad; ComponentLink2Description: Datasheet Link; ComponentLink2URL: https://www.we-online.com/redexpert/spec/744373965047?ad; Category: Shielded Power Inductors; Match Code: WE-LHMI; Mount: Surface Mount; Operating Temperature Max: 125°C; Operating Temperature Min: -40°C; Packaging: Tape and Reel; Length: 12.5mm; Width: 12.5mm; Height: 6.2mm; DC Resistance Max: 8.4mΩ; Inductance: 4.7µH; Performance Rated Current: 15.1A
footprint WE-LHMI_1365
pins: 1, 2

## 744373965056
designator L?, comment 5.6µH, 13.3A  (value not drawn)
WE-LHMI SMT Power Inductor, size 1365, 5.6µH, 13.3A, 10mΩ; Manufacturer Part Number: 744373965056; Manufacturer: Wurth Elektronik; Case/Size Code: 1365; DC Resistance: 8.3mΩ; Saturation Current @10%: 18.3A; Saturation Current @30%: 33A; Self Resonant Frequency: 13.7MHz; ComponentLink1Description: Website Link; ComponentLink1URL: https://www.we-online.com/redexpert/article/744373965056?ad; ComponentLink2Description: Datasheet Link; ComponentLink2URL: https://www.we-online.com/redexpert/spec/744373965056?ad; Category: Shielded Power Inductors; Match Code: WE-LHMI; Mount: Surface Mount; Operating Temperature Max: 125°C; Operating Temperature Min: -40°C; Packaging: Tape and Reel; Length: 12.5mm; Width: 12.5mm; Height: 6.2mm; DC Resistance Max: 10mΩ; Inductance: 5.6µH; Performance Rated Current: 13.3A
footprint WE-LHMI_1365
pins: 1, 2

## 744373965068
designator L?, comment 6.8µH, 12.7A  (value not drawn)
WE-LHMI SMT Power Inductor, size 1365, 6.8µH, 12.7A, 11.6mΩ; Manufacturer Part Number: 744373965068; Manufacturer: Wurth Elektronik; Case/Size Code: 1365; DC Resistance: 9.2mΩ; Saturation Current @10%: 15.8A; Saturation Current @30%: 28.9A; Self Resonant Frequency: 11.6MHz; ComponentLink1Description: Website Link; ComponentLink1URL: https://www.we-online.com/redexpert/article/744373965068?ad; ComponentLink2Description: Datasheet Link; ComponentLink2URL: https://www.we-online.com/redexpert/spec/744373965068?ad; Category: Shielded Power Inductors; Match Code: WE-LHMI; Mount: Surface Mount; Operating Temperature Max: 125°C; Operating Temperature Min: -40°C; Packaging: Tape and Reel; Length: 12.5mm; Width: 12.5mm; Height: 6.2mm; DC Resistance Max: 11.6mΩ; Inductance: 6.8µH; Performance Rated Current: 12.7A
footprint WE-LHMI_1365
pins: 1, 2

## 744373965100
designator L?, comment 10µH, 11.8A  (value not drawn)
WE-LHMI SMT Power Inductor, size 1365, 10µH, 11.8A, 16.5mΩ; Manufacturer Part Number: 744373965100; Manufacturer: Wurth Elektronik; Case/Size Code: 1365; DC Resistance: 10.6mΩ; Saturation Current @10%: 13.2A; Saturation Current @30%: 23.9A; Self Resonant Frequency: 8MHz; ComponentLink1Description: Website Link; ComponentLink1URL: https://www.we-online.com/redexpert/article/744373965100?ad; ComponentLink2Description: Datasheet Link; ComponentLink2URL: https://www.we-online.com/redexpert/spec/744373965100?ad; Category: Shielded Power Inductors; Match Code: WE-LHMI; Mount: Surface Mount; Operating Temperature Max: 125°C; Operating Temperature Min: -40°C; Packaging: Tape and Reel; Length: 12.5mm; Width: 12.5mm; Height: 6.2mm; DC Resistance Max: 16.5mΩ; Inductance: 10µH; Performance Rated Current: 11.8A
footprint WE-LHMI_1365
pins: 1, 2

## 744373965101
designator L?, comment 100µH, 3.2A  (value not drawn)
WE-LHMI SMT Power Inductor, size 1365, 100µH, 3.2A, 165mΩ; Manufacturer Part Number: 744373965101; Manufacturer: Wurth Elektronik; Case/Size Code: 1365; DC Resistance: 140.8mΩ; Saturation Current @10%: 3.45A; Saturation Current @30%: 6.8A; Self Resonant Frequency: 2.4MHz; ComponentLink1Description: Website Link; ComponentLink1URL: https://www.we-online.com/redexpert/article/744373965101?ad; ComponentLink2Description: Datasheet Link; ComponentLink2URL: https://www.we-online.com/redexpert/spec/744373965101?ad; Category: Shielded Power Inductors; Match Code: WE-LHMI; Mount: Surface Mount; Operating Temperature Max: 125°C; Operating Temperature Min: -40°C; Packaging: Tape and Reel; Length: 12.5mm; Width: 12.5mm; Height: 6.2mm; DC Resistance Max: 165mΩ; Inductance: 100µH; Performance Rated Current: 3.2A
footprint WE-LHMI_1365
pins: 1, 2

## 744373965120
designator L?, comment 12µH, 9.1A  (value not drawn)
WE-LHMI SMT Power Inductor, size 1365, 12µH, 9.1A, 20mΩ; Manufacturer Part Number: 744373965120; Manufacturer: Wurth Elektronik; Case/Size Code: 1365; DC Resistance: 17.8mΩ; Saturation Current @10%: 12.9A; Saturation Current @30%: 26.6A; Self Resonant Frequency: 7.6MHz; ComponentLink1Description: Website Link; ComponentLink1URL: https://www.we-online.com/redexpert/article/744373965120?ad; ComponentLink2Description: Datasheet Link; ComponentLink2URL: https://www.we-online.com/redexpert/spec/744373965120?ad; Category: Shielded Power Inductors; Match Code: WE-LHMI; Mount: Surface Mount; Operating Temperature Max: 125°C; Operating Temperature Min: -40°C; Packaging: Tape and Reel; Length: 12.5mm; Width: 12.5mm; Height: 6.2mm; DC Resistance Max: 20mΩ; Inductance: 12µH; Performance Rated Current: 9.1A
footprint WE-LHMI_1365
pins: 1, 2

## 744373965150
designator L?, comment 15µH, 7.7A  (value not drawn)
WE-LHMI SMT Power Inductor, size 1365, 15µH, 7.7A, 28mΩ; Manufacturer Part Number: 744373965150; Manufacturer: Wurth Elektronik; Case/Size Code: 1365; DC Resistance: 24.4mΩ; Saturation Current @10%: 10.2A; Saturation Current @30%: 18.5A; Self Resonant Frequency: 7.5MHz; ComponentLink1Description: Website Link; ComponentLink1URL: https://www.we-online.com/redexpert/article/744373965150?ad; ComponentLink2Description: Datasheet Link; ComponentLink2URL: https://www.we-online.com/redexpert/spec/744373965150?ad; Category: Shielded Power Inductors; Match Code: WE-LHMI; Mount: Surface Mount; Operating Temperature Max: 125°C; Operating Temperature Min: -40°C; Packaging: Tape and Reel; Length: 12.5mm; Width: 12.5mm; Height: 6.2mm; DC Resistance Max: 28mΩ; Inductance: 15µH; Performance Rated Current: 7.7A
footprint WE-LHMI_1365
pins: 1, 2

## 744373965220
designator L?, comment 22µH, 6.5A  (value not drawn)
WE-LHMI SMT Power Inductor, size 1365, 22µH, 6.5A, 37mΩ; Manufacturer Part Number: 744373965220; Manufacturer: Wurth Elektronik; Case/Size Code: 1365; DC Resistance: 34.5mΩ; Saturation Current @10%: 6.7A; Saturation Current @30%: 13.9A; Self Resonant Frequency: 5.4MHz; ComponentLink1Description: Website Link; ComponentLink1URL: https://www.we-online.com/redexpert/article/744373965220?ad; ComponentLink2Description: Datasheet Link; ComponentLink2URL: https://www.we-online.com/redexpert/spec/744373965220?ad; Category: Shielded Power Inductors; Match Code: WE-LHMI; Mount: Surface Mount; Operating Temperature Max: 125°C; Operating Temperature Min: -40°C; Packaging: Tape and Reel; Length: 12.5mm; Width: 12.5mm; Height: 6.2mm; DC Resistance Max: 37mΩ; Inductance: 22µH; Performance Rated Current: 6.5A
footprint WE-LHMI_1365
pins: 1, 2

## 744373965330
designator L?, comment 33µH, 5.45A  (value not drawn)
WE-LHMI SMT Power Inductor, size 1365, 33µH, 5.45A, 58mΩ; Manufacturer Part Number: 744373965330; Manufacturer: Wurth Elektronik; Case/Size Code: 1365; DC Resistance: 48.7mΩ; Saturation Current @10%: 6.3A; Saturation Current @30%: 13.2A; Self Resonant Frequency: 4.4MHz; ComponentLink1Description: Website Link; ComponentLink1URL: https://www.we-online.com/redexpert/article/744373965330?ad; ComponentLink2Description: Datasheet Link; ComponentLink2URL: https://www.we-online.com/redexpert/spec/744373965330?ad; Category: Shielded Power Inductors; Match Code: WE-LHMI; Mount: Surface Mount; Operating Temperature Max: 125°C; Operating Temperature Min: -40°C; Packaging: Tape and Reel; Length: 12.5mm; Width: 12.5mm; Height: 6.2mm; DC Resistance Max: 58mΩ; Inductance: 33µH; Performance Rated Current: 5.45A
footprint WE-LHMI_1365
pins: 1, 2

## 744373965470
designator L?, comment 47µH, 4.4A  (value not drawn)
WE-LHMI SMT Power Inductor, size 1365, 47µH, 4.4A, 90mΩ; Manufacturer Part Number: 744373965470; Manufacturer: Wurth Elektronik; Case/Size Code: 1365; DC Resistance: 74.6mΩ; Saturation Current @10%: 6.15A; Saturation Current @30%: 13.1A; Self Resonant Frequency: 3.8MHz; ComponentLink1Description: Website Link; ComponentLink1URL: https://www.we-online.com/redexpert/article/744373965470?ad; ComponentLink2Description: Datasheet Link; ComponentLink2URL: https://www.we-online.com/redexpert/spec/744373965470?ad; Category: Shielded Power Inductors; Match Code: WE-LHMI; Mount: Surface Mount; Operating Temperature Max: 125°C; Operating Temperature Min: -40°C; Packaging: Tape and Reel; Length: 12.5mm; Width: 12.5mm; Height: 6.2mm; DC Resistance Max: 90mΩ; Inductance: 47µH; Performance Rated Current: 4.4A
footprint WE-LHMI_1365
pins: 1, 2

## 7443739650022
designator L?, comment 0.22µH, 54.9A  (value not drawn)
WE-LHMI SMT Power Inductor, size 1365, 0.22µH, 54.9A, 0.6mΩ; Manufacturer Part Number: 7443739650022; Manufacturer: Wurth Elektronik; Case/Size Code: 1365; DC Resistance: 0.51mΩ; Saturation Current @10%: 81.5A; Saturation Current @30%: 120A; Self Resonant Frequency: 112.3MHz; ComponentLink1Description: Website Link; ComponentLink1URL: https://www.we-online.com/redexpert/article/7443739650022?ad; ComponentLink2Description: Datasheet Link; ComponentLink2URL: https://www.we-online.com/redexpert/spec/7443739650022?ad; Category: Shielded Power Inductors; Match Code: WE-LHMI; Mount: Surface Mount; Operating Temperature Max: 125°C; Operating Temperature Min: -40°C; Packaging: Tape and Reel; Length: 12.5mm; Width: 12.5mm; Height: 6.2mm; DC Resistance Max: 0.6mΩ; Inductance: 0.22µH; Performance Rated Current: 54.9A
footprint WE-LHMI_1365
pins: 1, 2

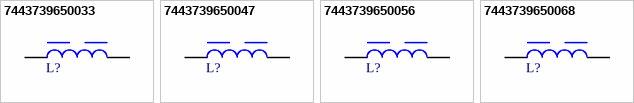
[diagram p4: symbols 7443739650033 to 7443739650068]

## 7443739650033
designator L?, comment 0.33µH, 49A  (value not drawn)
WE-LHMI SMT Power Inductor, size 1365, 0.33µH, 49A, 0.8mΩ; Manufacturer Part Number: 7443739650033; Manufacturer: Wurth Elektronik; Case/Size Code: 1365; DC Resistance: 0.64mΩ; Saturation Current @10%: 57.5A; Saturation Current @30%: 108.6A; Self Resonant Frequency: 74.7MHz; ComponentLink1Description: Website Link; ComponentLink1URL: https://www.we-online.com/redexpert/article/7443739650033?ad; ComponentLink2Description: Datasheet Link; ComponentLink2URL: https://www.we-online.com/redexpert/spec/7443739650033?ad; Category: Shielded Power Inductors; Match Code: WE-LHMI; Mount: Surface Mount; Operating Temperature Max: 125°C; Operating Temperature Min: -40°C; Packaging: Tape and Reel; Length: 12.5mm; Width: 12.5mm; Height: 6.2mm; DC Resistance Max: 0.8mΩ; Inductance: 0.33µH; Performance Rated Current: 49A
footprint WE-LHMI_1365
pins: 1, 2

## 7443739650047
designator L?, comment 0.47µH, 40.7A  (value not drawn)
WE-LHMI SMT Power Inductor, size 1365, 0.47µH, 40.7A, 1.2mΩ; Manufacturer Part Number: 7443739650047; Manufacturer: Wurth Elektronik; Case/Size Code: 1365; DC Resistance: 0.92mΩ; Saturation Current @10%: 49.7A; Saturation Current @30%: 99.4A; Self Resonant Frequency: 60MHz; ComponentLink1Description: Website Link; ComponentLink1URL: https://www.we-online.com/redexpert/article/7443739650047?ad; ComponentLink2Description: Datasheet Link; ComponentLink2URL: https://www.we-online.com/redexpert/spec/7443739650047?ad; Category: Shielded Power Inductors; Match Code: WE-LHMI; Mount: Surface Mount; Operating Temperature Max: 125°C; Operating Temperature Min: -40°C; Packaging: Tape and Reel; Length: 12.5mm; Width: 12.5mm; Height: 6.2mm; DC Resistance Max: 1.2mΩ; Inductance: 0.47µH; Performance Rated Current: 40.7A
footprint WE-LHMI_1365
pins: 1, 2

## 7443739650056
designator L?, comment 0.56µH, 37.1A  (value not drawn)
WE-LHMI SMT Power Inductor, size 1365, 0.56µH, 37.1A, 1.2mΩ; Manufacturer Part Number: 7443739650056; Manufacturer: Wurth Elektronik; Case/Size Code: 1365; DC Resistance: 1.11mΩ; Saturation Current @10%: 36.3A; Saturation Current @30%: 68.3A; Self Resonant Frequency: 51.7MHz; ComponentLink1Description: Website Link; ComponentLink1URL: https://www.we-online.com/redexpert/article/7443739650056?ad; ComponentLink2Description: Datasheet Link; ComponentLink2URL: https://www.we-online.com/redexpert/spec/7443739650056?ad; Category: Shielded Power Inductors; Match Code: WE-LHMI; Mount: Surface Mount; Operating Temperature Max: 125°C; Operating Temperature Min: -40°C; Packaging: Tape and Reel; Length: 12.5mm; Width: 12.5mm; Height: 6.2mm; DC Resistance Max: 1.2mΩ; Inductance: 0.56µH; Performance Rated Current: 37.1A
footprint WE-LHMI_1365
pins: 1, 2